# Altium integrated library Coiltronics Passive Transformer.IntLib: 204 symbols (part 1 of 4)
Pins are listed as number, name and electrical type; pins without a type are passive.

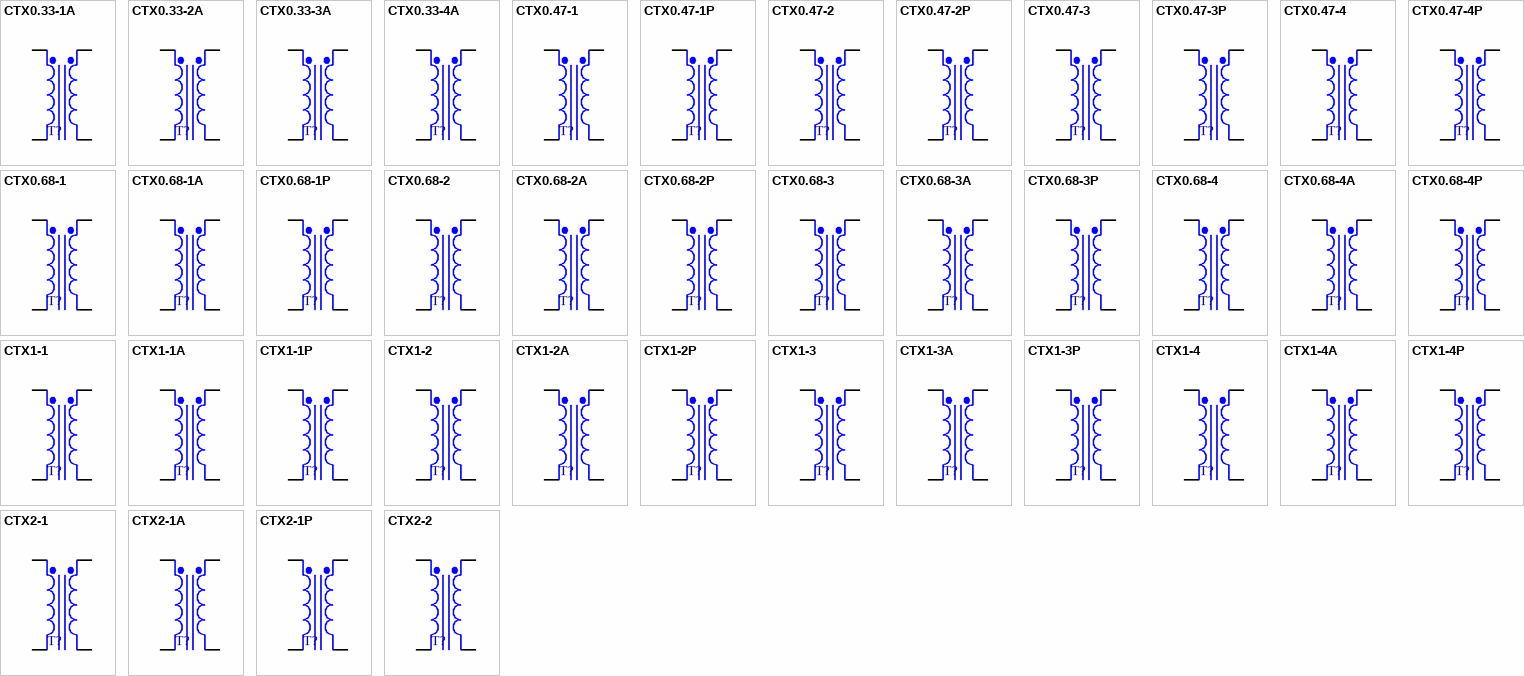
[diagram p0: symbols CTX0.33-1A to CTX2-2]

## CTX0.33-1A
designator T?
Surface Mount 1:1 Transformer, 4.98A RMS Series Current, Octa-Pac Plus; Parallel_OCL: 0.402uH ± 25%; Parallel_I(Sat): 12.5A (Peak); Parallel_I(RMS): 10.00A DC; Parallel_DCR: 0.0037 Ohms (Typical @ 20°C); Series_OCL: 1.61uH ± 25%; Series_I(Sat): 6.25uH (Minimum); Series_I(RMS): 4.98A DC; Series_DCR: 0.015 Ohms (Typical @ 20°C); Published: 17-Jul-2002; DatasheetDocument: Dec-2001; PackageDocument: Dec-2001; PackageReference: OPA1; Publisher: Altium Limited; ComponentLink1Description: Manufacturer Link; ComponentLink1URL: http://www.cooperet.com/; ComponentLink2Description: Datasheet; ComponentLink2URL: http://www.cooperet.com/pdfs_html/EconoPacOctaPacOctaPacPlus_Specs.pdf
footprint OPA1 (SM Inductor/Transformer; 4 Leads; Body 8.89 x 8.89 x 4.19 mm (LxWxH))
pins: 1 Pri+, 2 Pri-, 3 Sec-, 4 Sec+

## CTX0.33-2A
designator T?
Surface Mount 1:1 Transformer, 5.47A RMS Series Current, Octa-Pac Plus; Parallel_OCL: 0.284uH ± 25%; Parallel_I(Sat): 18.80A (Peak); Parallel_I(RMS): 10.90A DC; Parallel_DCR: 0.0033 Ohms (Typical @ 20°C); Series_OCL: 1.14uH ± 25%; Series_I(Sat): 9.38uH (Minimum); Series_I(RMS): 5.47A DC; Series_DCR: 0.0132 Ohms (Typical @ 20°C); Published: 17-Jul-2002; DatasheetDocument: Dec-2001; PackageDocument: Dec-2001; PackageReference: OPA1; Publisher: Altium Limited; ComponentLink1Description: Manufacturer Link; ComponentLink1URL: http://www.cooperet.com/; ComponentLink2Description: Datasheet; ComponentLink2URL: http://www.cooperet.com/pdfs_html/EconoPacOctaPacOctaPacPlus_Specs.pdf
footprint OPA1 (SM Inductor/Transformer; 4 Leads; Body 8.89 x 8.89 x 4.19 mm (LxWxH))
pins: 1 Pri+, 2 Pri-, 3 Sec-, 4 Sec+

## CTX0.33-3A
designator T?
Surface Mount 1:1 Transformer, 5.72A RMS Series Current, Octa-Pac Plus; Parallel_OCL: 0.368uH ± 25%; Parallel_I(Sat): 15.00A (Peak); Parallel_I(RMS): 11.4A DC; Parallel_DCR: 0.0032 Ohms (Typical @ 20°C); Series_OCL: 1.47uH ± 25%; Series_I(Sat): 7.5uH (Minimum); Series_I(RMS): 5.72A DC; Series_DCR: 0.0128 Ohms (Typical @ 20°C); Published: 17-Jul-2002; DatasheetDocument: Dec-2001; PackageDocument: Dec-2001; PackageReference: OPA3; Publisher: Altium Limited; ComponentLink1Description: Manufacturer Link; ComponentLink1URL: http://www.cooperet.com/; ComponentLink2Description: Datasheet; ComponentLink2URL: http://www.cooperet.com/pdfs_html/EconoPacOctaPacOctaPacPlus_Specs.pdf
footprint OPA3 (SM Inductor/Transformer; 4 Leads; Body 11.43 x 11.43 x 4.83 mm (LxWxH))
pins: 1 Pri+, 2 Pri-, 3 Sec-, 4 Sec+

## CTX0.33-4A
designator T?
Surface Mount 1:1 Transformer, 6.09A RMS Series Current, Octa-Pac Plus; Parallel_OCL: 0.313uH ± 25%; Parallel_I(Sat): 22.50A (Peak); Parallel_I(RMS): 12.2A DC; Parallel_DCR: 0.003 Ohms (Typical @ 20°C); Series_OCL: 1.25uH ± 25%; Series_I(Sat): 11.25uH (Minimum); Series_I(RMS): 6.09A DC; Series_DCR: 0.0119 Ohms (Typical @ 20°C); Published: 17-Jul-2002; DatasheetDocument: Dec-2001; PackageDocument: Dec-2001; PackageReference: OPA4; Publisher: Altium Limited; ComponentLink1Description: Manufacturer Link; ComponentLink1URL: http://www.cooperet.com/; ComponentLink2Description: Datasheet; ComponentLink2URL: http://www.cooperet.com/pdfs_html/EconoPacOctaPacOctaPacPlus_Specs.pdf
footprint OPA4 (SM Inductor/Transformer; 4 Leads; Body 11.43 x 11.43 x 6.35 mm (LxWxH))
pins: 1 Pri+, 2 Pri-, 3 Sec-, 4 Sec+

## CTX0.47-1
designator T?
Surface Mount 1:1 Transformer, 2.75A DC Series Full Load Current, Octa-Pac; Parallel_OCL: 0.40uH ± 20%; Parallel_L(Full_Load): 0.26uH (Minimum); Parallel_I(Full_Load): 5.50A DC; Parallel_DCR: 0.005 Ohms (Maximum); Series_OCL: 1.60uH ± 20%; Series_L(Full_Load): 1.05uH (Minimum); Series_DCR: 0.02 Ohms (Maximum); Published: 17-Jul-2002; DatasheetDocument: Jan-2002; PackageDocument: Dec-2001; PackageReference: OPA1; Publisher: Altium Limited; Series_I(Full_Load): 2.75A DC; ComponentLink1Description: Manufacturer Link; ComponentLink1URL: http://www.cooperet.com/; ComponentLink2Description: Datasheet; ComponentLink2URL: http://www.cooperet.com/pdfs_html/EconoPacOctaPacOctaPacPlus_Specs.pdf
footprint OPA1 (SM Inductor/Transformer; 4 Leads; Body 8.89 x 8.89 x 4.19 mm (LxWxH))
pins: 1 Pri+, 2 Pri-, 3 Sec-, 4 Sec+

## CTX0.47-1P
designator T?
Surface Mount 1:1 Transformer, 2.75A DC Series Full Load Current, Econo-Pac; Parallel_OCL: 0.42uH ± 20%; Parallel_L(Full_Load): 0.31uH (Minimum); Parallel_I(Full_Load): 5.50A DC; Parallel_DCR: 0.005 Ohms (Maximum); Series_OCL: 1.67uH ± 20%; Series_L(Full_Load): 1.25uH (Minimum); Series_DCR: 0.021 Ohms (Maximum); Published: 17-Jul-2002; DatasheetDocument: Jan-2002; PackageDocument: Dec-2001; PackageReference: OPA1; Publisher: Altium Limited; Series_I(Full_Load): 2.75A DC; ComponentLink1Description: Manufacturer Link; ComponentLink1URL: http://www.cooperet.com/; ComponentLink2Description: Datasheet; ComponentLink2URL: http://www.cooperet.com/pdfs_html/EconoPacOctaPacOctaPacPlus_Specs.pdf
footprint OPA1 (SM Inductor/Transformer; 4 Leads; Body 8.89 x 8.89 x 4.19 mm (LxWxH))
pins: 1 Pri+, 2 Pri-, 3 Sec-, 4 Sec+

## CTX0.47-2
designator T?
Surface Mount 1:1 Transformer, 3.25A DC Series Full Load Current, Octa-Pac; Parallel_OCL: 0.42uH ± 20%; Parallel_L(Full_Load): 0.29uH (Minimum); Parallel_I(Full_Load): 6.50A DC; Parallel_DCR: 0.005 Ohms (Maximum); Series_OCL: 1.69uH ± 20%; Series_L(Full_Load): 1.17uH (Minimum); Series_DCR: 0.019 Ohms (Maximum); Published: 17-Jul-2002; DatasheetDocument: Jan-2002; PackageDocument: Dec-2001; PackageReference: OPA1; Publisher: Altium Limited; Series_I(Full_Load): 3.25A DC; ComponentLink1Description: Manufacturer Link; ComponentLink1URL: http://www.cooperet.com/; ComponentLink2Description: Datasheet; ComponentLink2URL: http://www.cooperet.com/pdfs_html/EconoPacOctaPacOctaPacPlus_Specs.pdf
footprint OPA1 (SM Inductor/Transformer; 4 Leads; Body 8.89 x 8.89 x 4.19 mm (LxWxH))
pins: 1 Pri+, 2 Pri-, 3 Sec-, 4 Sec+

## CTX0.47-2P
designator T?
Surface Mount 1:1 Transformer, 2.95A DC Series Full Load Current, Econo-Pac; Parallel_OCL: 0.54uH ± 20%; Parallel_L(Full_Load): 0.42uH (Minimum); Parallel_I(Full_Load): 5.90A DC; Parallel_DCR: 0.006 Ohms (Maximum); Series_OCL: 2.18uH ± 20%; Series_L(Full_Load): 1.69uH (Minimum); Series_DCR: 0.024 Ohms (Maximum); Published: 17-Jul-2002; DatasheetDocument: Jan-2002; PackageDocument: Dec-2001; PackageReference: OPA1; Publisher: Altium Limited; Series_I(Full_Load): 2.95A DC; ComponentLink1Description: Manufacturer Link; ComponentLink1URL: http://www.cooperet.com/; ComponentLink2Description: Datasheet; ComponentLink2URL: http://www.cooperet.com/pdfs_html/EconoPacOctaPacOctaPacPlus_Specs.pdf
footprint OPA1 (SM Inductor/Transformer; 4 Leads; Body 8.89 x 8.89 x 4.19 mm (LxWxH))
pins: 1 Pri+, 2 Pri-, 3 Sec-, 4 Sec+

## CTX0.47-3
designator T?
Surface Mount 1:1 Transformer, 3.00A DC Series Full Load Current, Octa-Pac; Parallel_OCL: 0.38uH ± 20%; Parallel_L(Full_Load): 0.27uH (Minimum); Parallel_I(Full_Load): 6.00A DC; Parallel_DCR: 0.005 Ohms (Maximum); Series_OCL: 1.54uH ± 20%; Series_L(Full_Load): 1.08uH (Minimum); Series_I(Full_Load): 3A DC; Series_DCR: 0.02 Ohms (Maximum); Published: 17-Jul-2002; DatasheetDocument: Jan-2002; PackageDocument: Dec-2001; PackageReference: OPA3; Publisher: Altium Limited; ComponentLink1Description: Manufacturer Link; ComponentLink1URL: http://www.cooperet.com/; ComponentLink2Description: Datasheet; ComponentLink2URL: http://www.cooperet.com/pdfs_html/EconoPacOctaPacOctaPacPlus_Specs.pdf
footprint OPA3 (SM Inductor/Transformer; 4 Leads; Body 11.43 x 11.43 x 4.83 mm (LxWxH))
pins: 1 Pri+, 2 Pri-, 3 Sec-, 4 Sec+

## CTX0.47-3P
designator T?
Surface Mount 1:1 Transformer, 3.10A DC Series Full Load Current, Econo-Pac; Parallel_OCL: 0.46uH ± 20%; Parallel_L(Full_Load): 0.35uH (Minimum); Parallel_I(Full_Load): 6.20A DC; Parallel_DCR: 0.006 Ohms (Maximum); Series_OCL: 1.85uH ± 20%; Series_L(Full_Load): 1.42uH (Minimum); Series_I(Full_Load): 3.1A DC; Series_DCR: 0.025 Ohms (Maximum); Published: 17-Jul-2002; DatasheetDocument: Jan-2002; PackageDocument: Dec-2001; PackageReference: OPA3; Publisher: Altium Limited; ComponentLink1Description: Manufacturer Link; ComponentLink1URL: http://www.cooperet.com/; ComponentLink2Description: Datasheet; ComponentLink2URL: http://www.cooperet.com/pdfs_html/EconoPacOctaPacOctaPacPlus_Specs.pdf
footprint OPA3 (SM Inductor/Transformer; 4 Leads; Body 11.43 x 11.43 x 4.83 mm (LxWxH))
pins: 1 Pri+, 2 Pri-, 3 Sec-, 4 Sec+

## CTX0.47-4
designator T?
Surface Mount 1:1 Transformer, 3.50A DC Series Full Load Current, Octa-Pac; Parallel_OCL: 0.44uH ± 20%; Parallel_L(Full_Load): 0.32uH (Minimum); Parallel_I(Full_Load): 7.00A DC; Parallel_DCR: 0.004 Ohms (Maximum); Series_OCL: 1.76uH ± 20%; Series_L(Full_Load): 1.29uH (Minimum); Series_I(Full_Load): 3.5A DC; Series_DCR: 0.016 Ohms (Maximum); Published: 17-Jul-2002; DatasheetDocument: Jan-2002; PackageDocument: Dec-2001; PackageReference: OPA4; Publisher: Altium Limited; ComponentLink1Description: Manufacturer Link; ComponentLink1URL: http://www.cooperet.com/; ComponentLink2Description: Datasheet; ComponentLink2URL: http://www.cooperet.com/pdfs_html/EconoPacOctaPacOctaPacPlus_Specs.pdf
footprint OPA4 (SM Inductor/Transformer; 4 Leads; Body 11.43 x 11.43 x 6.35 mm (LxWxH))
pins: 1 Pri+, 2 Pri-, 3 Sec-, 4 Sec+

## CTX0.47-4P
designator T?
Surface Mount 1:1 Transformer, 3.95A DC Series Full Load Current, Econo-Pac; Parallel_OCL: 0.49uH ± 20%; Parallel_L(Full_Load): 0.37uH (Minimum); Parallel_I(Full_Load): 7.90A DC; Parallel_DCR: 0.005 Ohms (Maximum); Series_OCL: 1.95uH ± 20%; Series_L(Full_Load): 1.49uH (Minimum); Series_DCR: 0.019 Ohms (Maximum); Published: 17-Jul-2002; DatasheetDocument: Jan-2002; PackageDocument: Dec-2001; PackageReference: OPA4; Publisher: Altium Limited; Series_I(Full_Load): 3.95A DC; ComponentLink1Description: Manufacturer Link; ComponentLink1URL: http://www.cooperet.com/; ComponentLink2Description: Datasheet; ComponentLink2URL: http://www.cooperet.com/pdfs_html/EconoPacOctaPacOctaPacPlus_Specs.pdf
footprint OPA4 (SM Inductor/Transformer; 4 Leads; Body 11.43 x 11.43 x 6.35 mm (LxWxH))
pins: 1 Pri+, 2 Pri-, 3 Sec-, 4 Sec+

## CTX0.68-1
designator T?
Surface Mount 1:1 Transformer, 2.25A DC Series Full Load Current, Octa-Pac; Parallel_OCL: 0.63uH ± 20%; Parallel_L(Full_Load): 0.41uH (Minimum); Parallel_I(Full_Load): 4.50A DC; Parallel_DCR: 0.006 Ohms (Maximum); Series_OCL: 2.50uH ± 20%; Series_L(Full_Load): 1.63uH (Minimum); Series_DCR: 0.024 Ohms (Maximum); Published: 17-Jul-2002; DatasheetDocument: Jan-2002; PackageDocument: Dec-2001; PackageReference: OPA1; Publisher: Altium Limited; Series_I(Full_Load): 2.25A DC; ComponentLink1Description: Manufacturer Link; ComponentLink1URL: http://www.cooperet.com/; ComponentLink2Description: Datasheet; ComponentLink2URL: http://www.cooperet.com/pdfs_html/EconoPacOctaPacOctaPacPlus_Specs.pdf
footprint OPA1 (SM Inductor/Transformer; 4 Leads; Body 8.89 x 8.89 x 4.19 mm (LxWxH))
pins: 1 Pri+, 2 Pri-, 3 Sec-, 4 Sec+

## CTX0.68-1A
designator T?
Surface Mount 1:1 Transformer, 4.48A RMS Series Current, Octa-Pac Plus; Parallel_OCL: 0.752uH ± 25%; Parallel_I(Sat): 9.40A (Peak); Parallel_I(RMS): 9.00A DC; Parallel_DCR: 0.0046 Ohms (Typical @ 20°C); Series_OCL: 3.01uH ± 25%; Series_I(Sat): 4.69uH (Minimum); Series_I(RMS): 4.48A DC; Series_DCR: 0.0185 Ohms (Typical @ 20°C); Published: 17-Jul-2002; DatasheetDocument: Dec-2001; PackageDocument: Dec-2001; PackageReference: OPA1; Publisher: Altium Limited; ComponentLink1Description: Manufacturer Link; ComponentLink1URL: http://www.cooperet.com/; ComponentLink2Description: Datasheet; ComponentLink2URL: http://www.cooperet.com/pdfs_html/EconoPacOctaPacOctaPacPlus_Specs.pdf
footprint OPA1 (SM Inductor/Transformer; 4 Leads; Body 8.89 x 8.89 x 4.19 mm (LxWxH))
pins: 1 Pri+, 2 Pri-, 3 Sec-, 4 Sec+

## CTX0.68-1P
designator T?
Surface Mount 1:1 Transformer, 2.55A DC Series Full Load Current, Econo-Pac; Parallel_OCL: 0.60uH ± 20%; Parallel_L(Full_Load): 0.43uH (Minimum); Parallel_I(Full_Load): 5.10A DC; Parallel_DCR: 0.006 Ohms (Maximum); Series_OCL: 2.4uH ± 20%; Series_L(Full_Load): 1.74uH (Minimum); Series_DCR: 0.025 Ohms (Maximum); Published: 17-Jul-2002; DatasheetDocument: Jan-2002; PackageDocument: Dec-2001; PackageReference: OPA1; Publisher: Altium Limited; Series_I(Full_Load): 2.55A DC; ComponentLink1Description: Manufacturer Link; ComponentLink1URL: http://www.cooperet.com/; ComponentLink2Description: Datasheet; ComponentLink2URL: http://www.cooperet.com/pdfs_html/EconoPacOctaPacOctaPacPlus_Specs.pdf
footprint OPA1 (SM Inductor/Transformer; 4 Leads; Body 8.89 x 8.89 x 4.19 mm (LxWxH))
pins: 1 Pri+, 2 Pri-, 3 Sec-, 4 Sec+

## CTX0.68-2
designator T?
Surface Mount 1:1 Transformer, 2.75A DC Series Full Load Current, Octa-Pac; Parallel_OCL: 0.75uH ± 20%; Parallel_L(Full_Load): 0.50uH (Minimum); Parallel_I(Full_Load): 5.50A DC; Parallel_DCR: 0.006 Ohms (Maximum); Series_OCL: 3.01uH ± 20%; Series_L(Full_Load): 1.98uH (Minimum); Series_DCR: 0.024 Ohms (Maximum); Published: 17-Jul-2002; DatasheetDocument: Jan-2002; PackageDocument: Dec-2001; PackageReference: OPA1; Publisher: Altium Limited; Series_I(Full_Load): 2.75A DC; ComponentLink1Description: Manufacturer Link; ComponentLink1URL: http://www.cooperet.com/; ComponentLink2Description: Datasheet; ComponentLink2URL: http://www.cooperet.com/pdfs_html/EconoPacOctaPacOctaPacPlus_Specs.pdf
footprint OPA1 (SM Inductor/Transformer; 4 Leads; Body 8.89 x 8.89 x 4.19 mm (LxWxH))
pins: 1 Pri+, 2 Pri-, 3 Sec-, 4 Sec+

## CTX0.68-2A
designator T?
Surface Mount 1:1 Transformer, 4.68A RMS Series Current, Octa-Pac Plus; Parallel_OCL: 0.675uH ± 25%; Parallel_I(Sat): 12.50A (Peak); Parallel_I(RMS): 9.40A DC; Parallel_DCR: 0.0045 Ohms (Typical @ 20°C); Series_OCL: 2.70uH ± 25%; Series_I(Sat): 6.25uH (Minimum); Series_I(RMS): 4.68A DC; Series_DCR: 0.018 Ohms (Typical @ 20°C); Published: 17-Jul-2002; DatasheetDocument: Dec-2001; PackageDocument: Dec-2001; PackageReference: OPA1; Publisher: Altium Limited; ComponentLink1Description: Manufacturer Link; ComponentLink1URL: http://www.cooperet.com/; ComponentLink2Description: Datasheet; ComponentLink2URL: http://www.cooperet.com/pdfs_html/EconoPacOctaPacOctaPacPlus_Specs.pdf
footprint OPA1 (SM Inductor/Transformer; 4 Leads; Body 8.89 x 8.89 x 4.19 mm (LxWxH))
pins: 1 Pri+, 2 Pri-, 3 Sec-, 4 Sec+

## CTX0.68-2P
designator T?
Surface Mount 1:1 Transformer, 2.70A DC Series Full Load Current, Econo-Pac; Parallel_OCL: 0.85uH ± 20%; Parallel_L(Full_Load): 0.64uH (Minimum); Parallel_I(Full_Load): 5.40A DC; Parallel_DCR: 0.007 Ohms (Maximum); Series_OCL: 3.40uH ± 20%; Series_L(Full_Load): 2.55uH (Minimum); Series_I(Full_Load): 2.7A DC; Series_DCR: 0.029 Ohms (Maximum); Published: 17-Jul-2002; DatasheetDocument: Jan-2002; PackageDocument: Dec-2001; PackageReference: OPA1; Publisher: Altium Limited; ComponentLink1Description: Manufacturer Link; ComponentLink1URL: http://www.cooperet.com/; ComponentLink2Description: Datasheet; ComponentLink2URL: http://www.cooperet.com/pdfs_html/EconoPacOctaPacOctaPacPlus_Specs.pdf
footprint OPA1 (SM Inductor/Transformer; 4 Leads; Body 8.89 x 8.89 x 4.19 mm (LxWxH))
pins: 1 Pri+, 2 Pri-, 3 Sec-, 4 Sec+

## CTX0.68-3
designator T?
Surface Mount 1:1 Transformer, 2.50A DC Series Full Load Current, Octa-Pac; Parallel_OCL: 0.60uH ± 20%; Parallel_L(Full_Load): 0.42uH (Minimum); Parallel_I(Full_Load): 5.00A DC; Parallel_DCR: 0.006 Ohms (Maximum); Series_OCL: 2.40uH ± 20%; Series_L(Full_Load): 1.67uH (Minimum); Series_I(Full_Load): 2.5A DC; Series_DCR: 0.024 Ohms (Maximum); Published: 17-Jul-2002; DatasheetDocument: Jan-2002; PackageDocument: Dec-2001; PackageReference: OPA3; Publisher: Altium Limited; ComponentLink1Description: Manufacturer Link; ComponentLink1URL: http://www.cooperet.com/; ComponentLink2Description: Datasheet; ComponentLink2URL: http://www.cooperet.com/pdfs_html/EconoPacOctaPacOctaPacPlus_Specs.pdf
footprint OPA3 (SM Inductor/Transformer; 4 Leads; Body 11.43 x 11.43 x 4.83 mm (LxWxH))
pins: 1 Pri+, 2 Pri-, 3 Sec-, 4 Sec+

## CTX0.68-3A
designator T?
Surface Mount 1:1 Transformer, 4.64A RMS Series Current, Octa-Pac Plus; Parallel_OCL: 0.688uH ± 25%; Parallel_I(Sat): 11.30A (Peak); Parallel_I(RMS): 9.30A DC; Parallel_DCR: 0.0048 Ohms (Typical @ 20°C); Series_OCL: 2.75uH ± 25%; Series_I(Sat): 5.63uH (Minimum); Series_I(RMS): 4.64A DC; Series_DCR: 0.0194 Ohms (Typical @ 20°C); Published: 17-Jul-2002; DatasheetDocument: Dec-2001; PackageDocument: Dec-2001; PackageReference: OPA3; Publisher: Altium Limited; ComponentLink1Description: Manufacturer Link; ComponentLink1URL: http://www.cooperet.com/; ComponentLink2Description: Datasheet; ComponentLink2URL: http://www.cooperet.com/pdfs_html/EconoPacOctaPacOctaPacPlus_Specs.pdf
footprint OPA3 (SM Inductor/Transformer; 4 Leads; Body 11.43 x 11.43 x 4.83 mm (LxWxH))
pins: 1 Pri+, 2 Pri-, 3 Sec-, 4 Sec+

## CTX0.68-3P
designator T?
Surface Mount 1:1 Transformer, 2.85A DC Series Full Load Current, Econo-Pac; Parallel_OCL: 0.67uH ± 20%; Parallel_L(Full_Load): 0.50uH (Minimum); Parallel_I(Full_Load): 5.70A DC; Parallel_DCR: 0.007 Ohms (Maximum); Series_OCL: 2.66uH ± 20%; Series_L(Full_Load): 1.98uH (Minimum); Series_DCR: 0.028 Ohms (Maximum); Published: 17-Jul-2002; DatasheetDocument: Jan-2002; PackageDocument: Dec-2001; PackageReference: OPA3; Publisher: Altium Limited; Series_I(Full_Load): 2.85A DC; ComponentLink1Description: Manufacturer Link; ComponentLink1URL: http://www.cooperet.com/; ComponentLink2Description: Datasheet; ComponentLink2URL: http://www.cooperet.com/pdfs_html/EconoPacOctaPacOctaPacPlus_Specs.pdf
footprint OPA3 (SM Inductor/Transformer; 4 Leads; Body 11.43 x 11.43 x 4.83 mm (LxWxH))
pins: 1 Pri+, 2 Pri-, 3 Sec-, 4 Sec+

## CTX0.68-4
designator T?
Surface Mount 1:1 Transformer, 3.00A DC Series Full Load Current, Octa-Pac; Parallel_OCL: 0.78uH ± 20%; Parallel_L(Full_Load): 0.55uH (Minimum); Parallel_I(Full_Load): 6.00A DC; Parallel_DCR: 0.005 Ohms (Maximum); Series_OCL: 3.14uH ± 20%; Series_L(Full_Load): 2.21uH (Minimum); Series_I(Full_Load): 3A DC; Series_DCR: 0.02 Ohms (Maximum); Published: 17-Jul-2002; DatasheetDocument: Jan-2002; PackageDocument: Dec-2001; PackageReference: OPA4; Publisher: Altium Limited; ComponentLink1Description: Manufacturer Link; ComponentLink1URL: http://www.cooperet.com/; ComponentLink2Description: Datasheet; ComponentLink2URL: http://www.cooperet.com/pdfs_html/EconoPacOctaPacOctaPacPlus_Specs.pdf
footprint OPA4 (SM Inductor/Transformer; 4 Leads; Body 11.43 x 11.43 x 6.35 mm (LxWxH))
pins: 1 Pri+, 2 Pri-, 3 Sec-, 4 Sec+

## CTX0.68-4A
designator T?
Surface Mount 1:1 Transformer, 5.28A RMS Series Current, Octa-Pac Plus; Parallel_OCL: 0.744uH ± 25%; Parallel_I(Sat): 15.00A (Peak); Parallel_I(RMS): 10.6A DC; Parallel_DCR: 0.004 Ohms (Typical @ 20°C); Series_OCL: 2.98uH ± 25%; Series_I(Sat): 7.5uH (Minimum); Series_I(RMS): 5.28A DC; Series_DCR: 0.0158 Ohms (Typical @ 20°C); Published: 17-Jul-2002; DatasheetDocument: Dec-2001; PackageDocument: Dec-2001; PackageReference: OPA4; Publisher: Altium Limited; ComponentLink1Description: Manufacturer Link; ComponentLink1URL: http://www.cooperet.com/; ComponentLink2Description: Datasheet; ComponentLink2URL: http://www.cooperet.com/pdfs_html/EconoPacOctaPacOctaPacPlus_Specs.pdf
footprint OPA4 (SM Inductor/Transformer; 4 Leads; Body 11.43 x 11.43 x 6.35 mm (LxWxH))
pins: 1 Pri+, 2 Pri-, 3 Sec-, 4 Sec+

## CTX0.68-4P
designator T?
Surface Mount 1:1 Transformer, 3.60A DC Series Full Load Current, Econo-Pac; Parallel_OCL: 0.76uH ± 20%; Parallel_L(Full_Load): 0.56uH (Minimum); Parallel_I(Full_Load): 7.20A DC; Parallel_DCR: 0.006 Ohms (Maximum); Series_OCL: 3.05uH ± 20%; Series_L(Full_Load): 2.24uH (Minimum); Series_I(Full_Load): 3.6A DC; Series_DCR: 0.023 Ohms (Maximum); Published: 17-Jul-2002; DatasheetDocument: Jan-2002; PackageDocument: Dec-2001; PackageReference: OPA4; Publisher: Altium Limited; ComponentLink1Description: Manufacturer Link; ComponentLink1URL: http://www.cooperet.com/; ComponentLink2Description: Datasheet; ComponentLink2URL: http://www.cooperet.com/pdfs_html/EconoPacOctaPacOctaPacPlus_Specs.pdf
footprint OPA4 (SM Inductor/Transformer; 4 Leads; Body 11.43 x 11.43 x 6.35 mm (LxWxH))
pins: 1 Pri+, 2 Pri-, 3 Sec-, 4 Sec+

## CTX1-1
designator T?
Surface Mount 1:1 Transformer, 2.10A DC Series Full Load Current, Octa-Pac; Parallel_OCL: 0.90uH ± 20%; Parallel_L(Full_Load): 0.56uH (Minimum); Parallel_I(Full_Load): 4.20A DC; Parallel_DCR: 0.007 Ohms (Maximum); Series_OCL: 3.60uH ± 20%; Series_L(Full_Load): 2.24uH (Minimum); Series_I(Full_Load): 2.1A DC; Series_DCR: 0.028 Ohms (Maximum); Published: 17-Jul-2002; DatasheetDocument: Jan-2002; PackageDocument: Dec-2001; PackageReference: OPA1; Publisher: Altium Limited; ComponentLink1Description: Manufacturer Link; ComponentLink1URL: http://www.cooperet.com/; ComponentLink2Description: Datasheet; ComponentLink2URL: http://www.cooperet.com/pdfs_html/EconoPacOctaPacOctaPacPlus_Specs.pdf
footprint OPA1 (SM Inductor/Transformer; 4 Leads; Body 8.89 x 8.89 x 4.19 mm (LxWxH))
pins: 1 Pri+, 2 Pri-, 3 Sec-, 4 Sec+

## CTX1-1A
designator T?
Surface Mount 1:1 Transformer, 3.63A RMS Series Current, Octa-Pac Plus; Parallel_OCL: 1.18uH ± 25%; Parallel_I(Sat): 7.50A (Peak); Parallel_I(RMS): 7.50A DC; Parallel_DCR: 0.0070 Ohms (Typical @ 20°C); Series_OCL: 4.70uH ± 25%; Series_I(Sat): 3.75uH (Minimum); Series_I(RMS): 3.63A DC; Series_DCR: 0.0282 Ohms (Typical @ 20°C); Published: 17-Jul-2002; DatasheetDocument: Dec-2001; PackageDocument: Dec-2001; PackageReference: OPA1; Publisher: Altium Limited; ComponentLink1Description: Manufacturer Link; ComponentLink1URL: http://www.cooperet.com/; ComponentLink2Description: Datasheet; ComponentLink2URL: http://www.cooperet.com/pdfs_html/EconoPacOctaPacOctaPacPlus_Specs.pdf
footprint OPA1 (SM Inductor/Transformer; 4 Leads; Body 8.89 x 8.89 x 4.19 mm (LxWxH))
pins: 1 Pri+, 2 Pri-, 3 Sec-, 4 Sec+

## CTX1-1P
designator T?
Surface Mount 1:1 Transformer, 2.25A DC Series Full Load Current, Econo-Pac; Parallel_OCL: 1.07uH ± 20%; Parallel_L(Full_Load): 0.73uH (Minimum); Parallel_I(Full_Load): 4.50A DC; Parallel_DCR: 0.008 Ohms (Maximum); Series_OCL: 4.28uH ± 20%; Series_L(Full_Load): 2.92uH (Minimum); Series_DCR: 0.032 Ohms (Maximum); Published: 17-Jul-2002; DatasheetDocument: Jan-2002; PackageDocument: Dec-2001; PackageReference: OPA1; Publisher: Altium Limited; Series_I(Full_Load): 2.25A DC; ComponentLink1Description: Manufacturer Link; ComponentLink1URL: http://www.cooperet.com/; ComponentLink2Description: Datasheet; ComponentLink2URL: http://www.cooperet.com/pdfs_html/EconoPacOctaPacOctaPacPlus_Specs.pdf
footprint OPA1 (SM Inductor/Transformer; 4 Leads; Body 8.89 x 8.89 x 4.19 mm (LxWxH))
pins: 1 Pri+, 2 Pri-, 3 Sec-, 4 Sec+

## CTX1-2
designator T?
Surface Mount 1:1 Transformer, 2.30A DC Series Full Load Current, Octa-Pac; Parallel_OCL: 1.18uH ± 20%; Parallel_L(Full_Load): 0.76uH (Minimum); Parallel_I(Full_Load): 4.60A DC; Parallel_DCR: 0.007 Ohms (Maximum); Series_OCL: 4.70uH ± 20%; Series_L(Full_Load): 3.04uH (Minimum); Series_I(Full_Load): 2.3A DC; Series_DCR: 0.028 Ohms (Maximum); Published: 17-Jul-2002; DatasheetDocument: Jan-2002; PackageDocument: Dec-2001; PackageReference: OPA2; Publisher: Altium Limited; ComponentLink1Description: Manufacturer Link; ComponentLink1URL: http://www.cooperet.com/; ComponentLink2Description: Datasheet; ComponentLink2URL: http://www.cooperet.com/pdfs_html/EconoPacOctaPacOctaPacPlus_Specs.pdf
footprint OPA2 (SM Inductor/Transformer; 4 Leads; Body 8.89 x 8.89 x 5.97 mm (LxWxH))
pins: 1 Pri+, 2 Pri-, 3 Sec-, 4 Sec+

## CTX1-2A
designator T?
Surface Mount 1:1 Transformer, 4.11A RMS Series Current, Octa-Pac Plus; Parallel_OCL: 1.26uH ± 25%; Parallel_I(Sat): 9.38A (Peak); Parallel_I(RMS): 8.22A DC; Parallel_DCR: 0.0058 Ohms (Typical @ 20°C); Series_OCL: 5.06uH ± 25%; Series_I(Sat): 4.69uH (Minimum); Series_I(RMS): 4.11A DC; Series_DCR: 0.0233 Ohms (Typical @ 20°C); Published: 17-Jul-2002; DatasheetDocument: Dec-2001; PackageDocument: Dec-2001; PackageReference: OPA2; Publisher: Altium Limited; ComponentLink1Description: Manufacturer Link; ComponentLink1URL: http://www.cooperet.com/; ComponentLink2Description: Datasheet; ComponentLink2URL: http://www.cooperet.com/pdfs_html/EconoPacOctaPacOctaPacPlus_Specs.pdf
footprint OPA2 (SM Inductor/Transformer; 4 Leads; Body 8.89 x 8.89 x 5.97 mm (LxWxH))
pins: 1 Pri+, 2 Pri-, 3 Sec-, 4 Sec+

## CTX1-2P
designator T?
Surface Mount 1:1 Transformer, 2.50A DC Series Full Load Current, Econo-Pac; Parallel_OCL: 1.22uH ± 20%; Parallel_L(Full_Load): 0.89uH (Minimum); Parallel_I(Full_Load): 5.00A DC; Parallel_DCR: 0.008 Ohms (Maximum); Series_OCL: 4.90uH ± 20%; Series_L(Full_Load): 3.57uH (Minimum); Series_I(Full_Load): 2.5A DC; Series_DCR: 0.033 Ohms (Maximum); Published: 17-Jul-2002; DatasheetDocument: Jan-2002; PackageDocument: Dec-2001; PackageReference: OPA2; Publisher: Altium Limited; ComponentLink1Description: Manufacturer Link; ComponentLink1URL: http://www.cooperet.com/; ComponentLink2Description: Datasheet; ComponentLink2URL: http://www.cooperet.com/pdfs_html/EconoPacOctaPacOctaPacPlus_Specs.pdf
footprint OPA2 (SM Inductor/Transformer; 4 Leads; Body 8.89 x 8.89 x 5.97 mm (LxWxH))
pins: 1 Pri+, 2 Pri-, 3 Sec-, 4 Sec+

## CTX1-3
designator T?
Surface Mount 1:1 Transformer, 2.40A DC Series Full Load Current, Octa-Pac; Parallel_OCL: 0.86uH ± 20%; Parallel_L(Full_Load): 0.57uH (Minimum); Parallel_I(Full_Load): 4.80A DC; Parallel_DCR: 0.007 Ohms (Maximum); Series_OCL: 3.46uH ± 20%; Series_L(Full_Load): 2.28uH (Minimum); Series_I(Full_Load): 2.4A DC; Series_DCR: 0.028 Ohms (Maximum); Published: 17-Jul-2002; DatasheetDocument: Jan-2002; PackageDocument: Dec-2001; PackageReference: OPA3; Publisher: Altium Limited; ComponentLink1Description: Manufacturer Link; ComponentLink1URL: http://www.cooperet.com/; ComponentLink2Description: Datasheet; ComponentLink2URL: http://www.cooperet.com/pdfs_html/EconoPacOctaPacOctaPacPlus_Specs.pdf
footprint OPA3 (SM Inductor/Transformer; 4 Leads; Body 11.43 x 11.43 x 4.83 mm (LxWxH))
pins: 1 Pri+, 2 Pri-, 3 Sec-, 4 Sec+

## CTX1-3A
designator T?
Surface Mount 1:1 Transformer, 4.19A RMS Series Current, Octa-Pac Plus; Parallel_OCL: 1.08uH ± 25%; Parallel_I(Sat): 9.00A (Peak); Parallel_I(RMS): 8.38A DC; Parallel_DCR: 0.0059 Ohms (Typical @ 20°C); Series_OCL: 4.20uH ± 25%; Series_I(Sat): 4.50uH (Minimum); Series_I(RMS): 4.19A DC; Series_DCR: 0.0238 Ohms (Typical @ 20°C); Published: 17-Jul-2002; DatasheetDocument: Dec-2001; PackageDocument: Dec-2001; PackageReference: OPA3; Publisher: Altium Limited; ComponentLink1Description: Manufacturer Link; ComponentLink1URL: http://www.cooperet.com/; ComponentLink2Description: Datasheet; ComponentLink2URL: http://www.cooperet.com/pdfs_html/EconoPacOctaPacOctaPacPlus_Specs.pdf
footprint OPA3 (SM Inductor/Transformer; 4 Leads; Body 11.43 x 11.43 x 4.83 mm (LxWxH))
pins: 1 Pri+, 2 Pri-, 3 Sec-, 4 Sec+

## CTX1-3P
designator T?
Surface Mount 1:1 Transformer, 2.70A DC Series Full Load Current, Econo-Pac; Parallel_OCL: 0.91uH ± 20%; Parallel_L(Full_Load): 0.65uH (Minimum); Parallel_I(Full_Load): 5.40A DC; Parallel_DCR: 0.008 Ohms (Maximum); Series_OCL: 3.63uH ± 20%; Series_L(Full_Load): 2.62uH (Minimum); Series_I(Full_Load): 2.7A DC; Series_DCR: 0.032 Ohms (Maximum); Published: 17-Jul-2002; DatasheetDocument: Jan-2002; PackageDocument: Dec-2001; PackageReference: OPA3; Publisher: Altium Limited; ComponentLink1Description: Manufacturer Link; ComponentLink1URL: http://www.cooperet.com/; ComponentLink2Description: Datasheet; ComponentLink2URL: http://www.cooperet.com/pdfs_html/EconoPacOctaPacOctaPacPlus_Specs.pdf
footprint OPA3 (SM Inductor/Transformer; 4 Leads; Body 11.43 x 11.43 x 4.83 mm (LxWxH))
pins: 1 Pri+, 2 Pri-, 3 Sec-, 4 Sec+

## CTX1-4
designator T?
Surface Mount 1:1 Transformer, 2.50A DC Series Full Load Current, Octa-Pac; Parallel_OCL: 1.23uH ± 20%; Parallel_L(Full_Load): 0.85uH (Minimum); Parallel_I(Full_Load): 5.00A DC; Parallel_DCR: 0.006 Ohms (Maximum); Series_OCL: 4.90uH ± 20%; Series_L(Full_Load): 3.41uH (Minimum); Series_I(Full_Load): 2.5A DC; Series_DCR: 0.024 Ohms (Maximum); Published: 17-Jul-2002; DatasheetDocument: Jan-2002; PackageDocument: Dec-2001; PackageReference: OPA4; Publisher: Altium Limited; ComponentLink1Description: Manufacturer Link; ComponentLink1URL: http://www.cooperet.com/; ComponentLink2Description: Datasheet; ComponentLink2URL: http://www.cooperet.com/pdfs_html/EconoPacOctaPacOctaPacPlus_Specs.pdf
footprint OPA4 (SM Inductor/Transformer; 4 Leads; Body 11.43 x 11.43 x 6.35 mm (LxWxH))
pins: 1 Pri+, 2 Pri-, 3 Sec-, 4 Sec+

## CTX1-4A
designator T?
Surface Mount 1:1 Transformer, 4.62A RMS Series Current, Octa-Pac Plus; Parallel_OCL: 1.39uH ± 25%; Parallel_I(Sat): 11.25A (Peak); Parallel_I(RMS): 9.23A DC; Parallel_DCR: 0.0052 Ohms (Typical @ 20°C); Series_OCL: 5.57uH ± 25%; Series_I(Sat): 5.63uH (Minimum); Series_I(RMS): 4.62A DC; Series_DCR: 0.0207 Ohms (Typical @ 20°C); Published: 17-Jul-2002; DatasheetDocument: Dec-2001; PackageDocument: Dec-2001; PackageReference: OPA4; Publisher: Altium Limited; ComponentLink1Description: Manufacturer Link; ComponentLink1URL: http://www.cooperet.com/; ComponentLink2Description: Datasheet; ComponentLink2URL: http://www.cooperet.com/pdfs_html/EconoPacOctaPacOctaPacPlus_Specs.pdf
footprint OPA4 (SM Inductor/Transformer; 4 Leads; Body 11.43 x 11.43 x 6.35 mm (LxWxH))
pins: 1 Pri+, 2 Pri-, 3 Sec-, 4 Sec+

## CTX1-4P
designator T?
Surface Mount 1:1 Transformer, 2.95A DC Series Full Load Current, Econo-Pac; Parallel_OCL: 1.10uH ± 20%; Parallel_L(Full_Load): 0.81uH (Minimum); Parallel_I(Full_Load): 5.90A DC; Parallel_DCR: 0.008 Ohms (Maximum); Series_OCL: 4.39uH ± 20%; Series_L(Full_Load): 3.24uH (Minimum); Series_DCR: 0.033 Ohms (Maximum); Published: 17-Jul-2002; DatasheetDocument: Jan-2002; PackageDocument: Dec-2001; PackageReference: OPA4; Publisher: Altium Limited; Series_I(Full_Load): 2.95A DC; ComponentLink1Description: Manufacturer Link; ComponentLink1URL: http://www.cooperet.com/; ComponentLink2Description: Datasheet; ComponentLink2URL: http://www.cooperet.com/pdfs_html/EconoPacOctaPacOctaPacPlus_Specs.pdf
footprint OPA4 (SM Inductor/Transformer; 4 Leads; Body 11.43 x 11.43 x 6.35 mm (LxWxH))
pins: 1 Pri+, 2 Pri-, 3 Sec-, 4 Sec+

## CTX2-1
designator T?
Surface Mount 1:1 Transformer, 2.05A DC Series Full Load Current, Octa-Pac; Parallel_OCL: 2.03uH ± 20%; Parallel_L(Full_Load): 1.00uH (Minimum); Parallel_I(Full_Load): 4.10A DC; Parallel_DCR: 0.01 Ohms (Maximum); Series_OCL: 8.10uH ± 20%; Series_L(Full_Load): 4.01uH (Minimum); Series_DCR: 0.04 Ohms (Maximum); Published: 17-Jul-2002; DatasheetDocument: Jan-2002; PackageDocument: Dec-2001; PackageReference: OPA1; Publisher: Altium Limited; Series_I(Full_Load): 2.05A DC; ComponentLink1Description: Manufacturer Link; ComponentLink1URL: http://www.cooperet.com/; ComponentLink2Description: Datasheet; ComponentLink2URL: http://www.cooperet.com/pdfs_html/EconoPacOctaPacOctaPacPlus_Specs.pdf
footprint OPA1 (SM Inductor/Transformer; 4 Leads; Body 8.89 x 8.89 x 4.19 mm (LxWxH))
pins: 1 Pri+, 2 Pri-, 3 Sec-, 4 Sec+

## CTX2-1A
designator T?
Surface Mount 1:1 Transformer, 2.82A RMS Series Current, Octa-Pac Plus; Parallel_OCL: 2.30uH ± 25%; Parallel_I(Sat): 5.36A (Peak); Parallel_I(RMS): 5.64A DC; Parallel_DCR: 0.012 Ohms (Typical @ 20°C); Series_OCL: 9.21uH ± 25%; Series_I(Sat): 2.68uH (Minimum); Series_I(RMS): 2.82A DC; Series_DCR: 0.0470 Ohms (Typical @ 20°C); Published: 17-Jul-2002; DatasheetDocument: Dec-2001; PackageDocument: Dec-2001; PackageReference: OPA1; Publisher: Altium Limited; ComponentLink1Description: Manufacturer Link; ComponentLink1URL: http://www.cooperet.com/; ComponentLink2Description: Datasheet; ComponentLink2URL: http://www.cooperet.com/pdfs_html/EconoPacOctaPacOctaPacPlus_Specs.pdf
footprint OPA1 (SM Inductor/Transformer; 4 Leads; Body 8.89 x 8.89 x 4.19 mm (LxWxH))
pins: 1 Pri+, 2 Pri-, 3 Sec-, 4 Sec+

## CTX2-1P
designator T?
Surface Mount 1:1 Transformer, 1.70A DC Series Full Load Current, Econo-Pac; Parallel_OCL: 2.02uH ± 20%; Parallel_L(Full_Load): 1.36uH (Minimum); Parallel_I(Full_Load): 3.40A DC; Parallel_DCR: 0.013 Ohms (Maximum); Series_OCL: 8.08uH ± 20%; Series_L(Full_Load): 5.44uH (Minimum); Series_I(Full_Load): 1.7A DC; Series_DCR: 0.054 Ohms (Maximum); Published: 17-Jul-2002; DatasheetDocument: Jan-2002; PackageDocument: Dec-2001; PackageReference: OPA1; Publisher: Altium Limited; ComponentLink1Description: Manufacturer Link; ComponentLink1URL: http://www.cooperet.com/; ComponentLink2Description: Datasheet; ComponentLink2URL: http://www.cooperet.com/pdfs_html/EconoPacOctaPacOctaPacPlus_Specs.pdf
footprint OPA1 (SM Inductor/Transformer; 4 Leads; Body 8.89 x 8.89 x 4.19 mm (LxWxH))
pins: 1 Pri+, 2 Pri-, 3 Sec-, 4 Sec+

## CTX2-2
designator T?
Surface Mount 1:1 Transformer, 2.25A DC Series Full Load Current, Octa-Pac; Parallel_OCL: 2.30uH ± 20%; Parallel_L(Full_Load): 1.27uH (Minimum); Parallel_I(Full_Load): 4.50A DC; Parallel_DCR: 0.01 Ohms (Maximum); Series_OCL: 9.21uH ± 20%; Series_L(Full_Load): 5.07uH (Minimum); Series_DCR: 0.038 Ohms (Maximum); Published: 17-Jul-2002; DatasheetDocument: Jan-2002; PackageDocument: Dec-2001; PackageReference: OPA2; Publisher: Altium Limited; Series_I(Full_Load): 2.25A DC; ComponentLink1Description: Manufacturer Link; ComponentLink1URL: http://www.cooperet.com/; ComponentLink2Description: Datasheet; ComponentLink2URL: http://www.cooperet.com/pdfs_html/EconoPacOctaPacOctaPacPlus_Specs.pdf
footprint OPA2 (SM Inductor/Transformer; 4 Leads; Body 8.89 x 8.89 x 5.97 mm (LxWxH))
pins: 1 Pri+, 2 Pri-, 3 Sec-, 4 Sec+

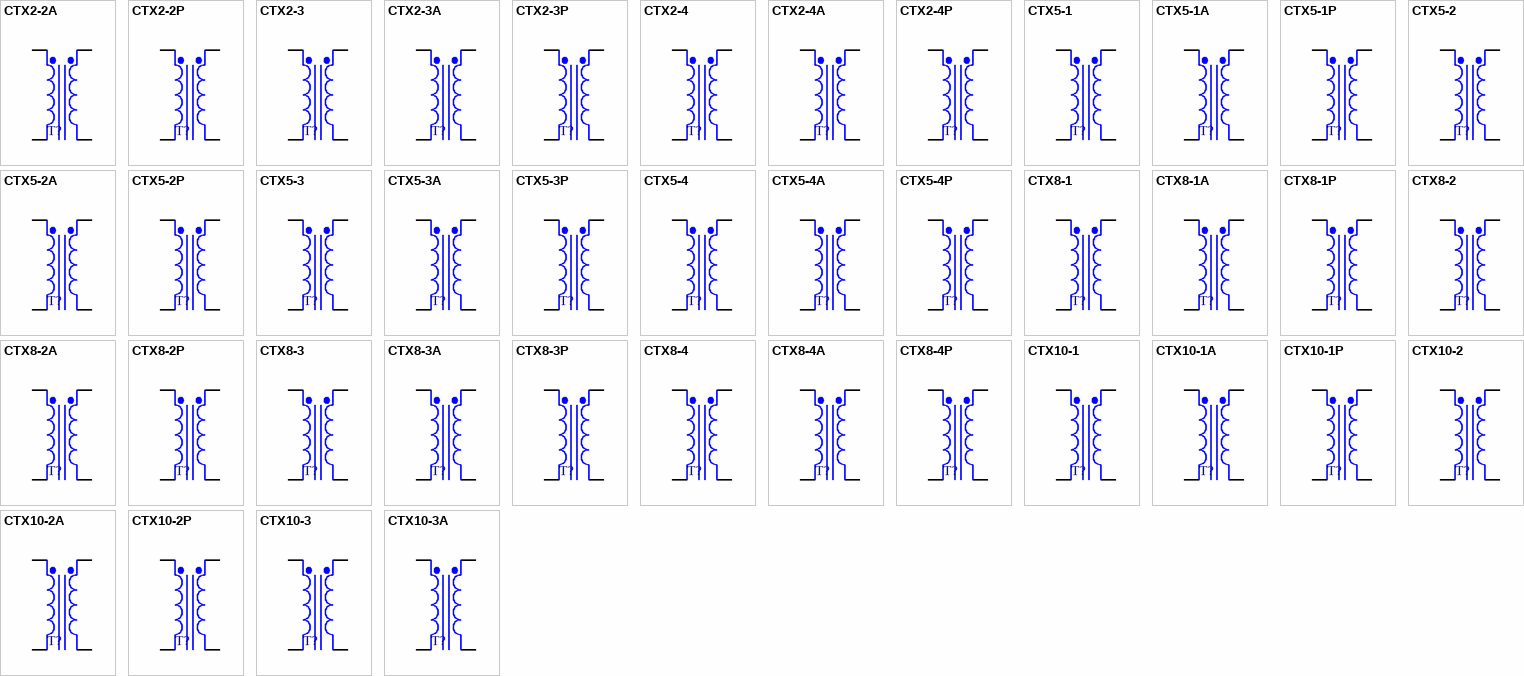
[diagram p1: symbols CTX2-2A to CTX10-3A]

## CTX2-2A
designator T?
Surface Mount 1:1 Transformer, 3.37A RMS Series Current, Octa-Pac Plus; Parallel_OCL: 1.98uH ± 25%; Parallel_I(Sat): 7.50A (Peak); Parallel_I(RMS): 6.74A DC; Parallel_DCR: 0.0090 Ohms (Typical @ 20°C); Series_OCL: 7.90uH ± 25%; Series_I(Sat): 3.75uH (Minimum); Series_I(RMS): 3.37A DC; Series_DCR: 0.035 Ohms (Typical @ 20°C); Published: 17-Jul-2002; DatasheetDocument: Dec-2001; PackageDocument: Dec-2001; PackageReference: OPA2; Publisher: Altium Limited; ComponentLink1Description: Manufacturer Link; ComponentLink1URL: http://www.cooperet.com/; ComponentLink2Description: Datasheet; ComponentLink2URL: http://www.cooperet.com/pdfs_html/EconoPacOctaPacOctaPacPlus_Specs.pdf
footprint OPA2 (SM Inductor/Transformer; 4 Leads; Body 8.89 x 8.89 x 5.97 mm (LxWxH))
pins: 1 Pri+, 2 Pri-, 3 Sec-, 4 Sec+

## CTX2-2P
designator T?
Surface Mount 1:1 Transformer, 1.95A DC Series Full Load Current, Econo-Pac; Parallel_OCL: 2.18uH ± 20%; Parallel_L(Full_Load): 1.56uH (Minimum); Parallel_I(Full_Load): 3.90A DC; Parallel_DCR: 0.014 Ohms (Maximum); Series_OCL: 8.70uH ± 20%; Series_L(Full_Load): 6.26uH (Minimum); Series_DCR: 0.055 Ohms (Maximum); Published: 17-Jul-2002; DatasheetDocument: Jan-2002; PackageDocument: Dec-2001; PackageReference: OPA2; Publisher: Altium Limited; Series_I(Full_Load): 1.95A DC; ComponentLink1Description: Manufacturer Link; ComponentLink1URL: http://www.cooperet.com/; ComponentLink2Description: Datasheet; ComponentLink2URL: http://www.cooperet.com/pdfs_html/EconoPacOctaPacOctaPacPlus_Specs.pdf
footprint OPA2 (SM Inductor/Transformer; 4 Leads; Body 8.89 x 8.89 x 5.97 mm (LxWxH))
pins: 1 Pri+, 2 Pri-, 3 Sec-, 4 Sec+

## CTX2-3
designator T?
Surface Mount 1:1 Transformer, 2.35A DC Series Full Load Current, Octa-Pac; Parallel_OCL: 1.94uH ± 20%; Parallel_L(Full_Load): 1.05uH (Minimum); Parallel_I(Full_Load): 4.70A DC; Parallel_DCR: 0.01 Ohms (Maximum); Series_OCL: 7.78uH ± 20%; Series_L(Full_Load): 4.22uH (Minimum); Series_DCR: 0.04 Ohms (Maximum); Published: 17-Jul-2002; DatasheetDocument: Jan-2002; PackageDocument: Dec-2001; PackageReference: OPA3; Publisher: Altium Limited; Series_I(Full_Load): 2.35A DC; ComponentLink1Description: Manufacturer Link; ComponentLink1URL: http://www.cooperet.com/; ComponentLink2Description: Datasheet; ComponentLink2URL: http://www.cooperet.com/pdfs_html/EconoPacOctaPacOctaPacPlus_Specs.pdf
footprint OPA3 (SM Inductor/Transformer; 4 Leads; Body 11.43 x 11.43 x 4.83 mm (LxWxH))
pins: 1 Pri+, 2 Pri-, 3 Sec-, 4 Sec+

## CTX2-3A
designator T?
Surface Mount 1:1 Transformer, 3.63A RMS Series Current, Octa-Pac Plus; Parallel_OCL: 2.11uH ± 25%; Parallel_I(Sat): 6.43A (Peak); Parallel_I(RMS): 7.26A DC; Parallel_DCR: 0.0079 Ohms (Typical @ 20°C); Series_OCL: 8.43uH ± 25%; Series_I(Sat): 3.21uH (Minimum); Series_I(RMS): 3.63A DC; Series_DCR: 0.0317 Ohms (Typical @ 20°C); Published: 17-Jul-2002; DatasheetDocument: Dec-2001; PackageDocument: Dec-2001; PackageReference: OPA3; Publisher: Altium Limited; ComponentLink1Description: Manufacturer Link; ComponentLink1URL: http://www.cooperet.com/; ComponentLink2Description: Datasheet; ComponentLink2URL: http://www.cooperet.com/pdfs_html/EconoPacOctaPacOctaPacPlus_Specs.pdf
footprint OPA3 (SM Inductor/Transformer; 4 Leads; Body 11.43 x 11.43 x 4.83 mm (LxWxH))
pins: 1 Pri+, 2 Pri-, 3 Sec-, 4 Sec+

## CTX2-3P
designator T?
Surface Mount 1:1 Transformer, 2.30A DC Series Full Load Current, Econo-Pac; Parallel_OCL: 1.85uH ± 20%; Parallel_L(Full_Load): 1.24uH (Minimum); Parallel_I(Full_Load): 4.60A DC; Parallel_DCR: 0.011 Ohms (Maximum); Series_OCL: 7.40uH ± 20%; Series_L(Full_Load): 4.97uH (Minimum); Series_I(Full_Load): 2.3A DC; Series_DCR: 0.045 Ohms (Maximum); Published: 17-Jul-2002; DatasheetDocument: Jan-2002; PackageDocument: Dec-2001; PackageReference: OPA3; Publisher: Altium Limited; ComponentLink1Description: Manufacturer Link; ComponentLink1URL: http://www.cooperet.com/; ComponentLink2Description: Datasheet; ComponentLink2URL: http://www.cooperet.com/pdfs_html/EconoPacOctaPacOctaPacPlus_Specs.pdf
footprint OPA3 (SM Inductor/Transformer; 4 Leads; Body 11.43 x 11.43 x 4.83 mm (LxWxH))
pins: 1 Pri+, 2 Pri-, 3 Sec-, 4 Sec+

## CTX2-4
designator T?
Surface Mount 1:1 Transformer, 2.45A DC Series Full Load Current, Octa-Pac; Parallel_OCL: 1.76uH ± 20%; Parallel_L(Full_Load): 1.06uH (Minimum); Parallel_I(Full_Load): 4.90A DC; Parallel_DCR: 0.007 Ohms (Maximum); Series_OCL: 7.06uH ± 20%; Series_L(Full_Load): 4.24uH (Minimum); Series_DCR: 0.028 Ohms (Maximum); Published: 17-Jul-2002; DatasheetDocument: Jan-2002; PackageDocument: Dec-2001; PackageReference: OPA4; Publisher: Altium Limited; Series_I(Full_Load): 2.45A DC; ComponentLink1Description: Manufacturer Link; ComponentLink1URL: http://www.cooperet.com/; ComponentLink2Description: Datasheet; ComponentLink2URL: http://www.cooperet.com/pdfs_html/EconoPacOctaPacOctaPacPlus_Specs.pdf
footprint OPA4 (SM Inductor/Transformer; 4 Leads; Body 11.43 x 11.43 x 6.35 mm (LxWxH))
pins: 1 Pri+, 2 Pri-, 3 Sec-, 4 Sec+

## CTX2-4A
designator T?
Surface Mount 1:1 Transformer, 4.19A RMS Series Current, Octa-Pac Plus; Parallel_OCL: 2.18uH ± 25%; Parallel_I(Sat): 9.00A (Peak); Parallel_I(RMS): 8.38A DC; Parallel_DCR: 0.0063 Ohms (Typical @ 20°C); Series_OCL: 8.70uH ± 25%; Series_I(Sat): 4.50uH (Minimum); Series_I(RMS): 4.19A DC; Series_DCR: 0.0251 Ohms (Typical @ 20°C); Published: 17-Jul-2002; DatasheetDocument: Dec-2001; PackageDocument: Dec-2001; PackageReference: OPA4; Publisher: Altium Limited; ComponentLink1Description: Manufacturer Link; ComponentLink1URL: http://www.cooperet.com/; ComponentLink2Description: Datasheet; ComponentLink2URL: http://www.cooperet.com/pdfs_html/EconoPacOctaPacOctaPacPlus_Specs.pdf
footprint OPA4 (SM Inductor/Transformer; 4 Leads; Body 11.43 x 11.43 x 6.35 mm (LxWxH))
pins: 1 Pri+, 2 Pri-, 3 Sec-, 4 Sec+

## CTX2-4P
designator T?
Surface Mount 1:1 Transformer, 2.30A DC Series Full Load Current, Econo-Pac; Parallel_OCL: 1.95uH ± 20%; Parallel_L(Full_Load): 1.42uH (Minimum); Parallel_I(Full_Load): 4.60A DC; Parallel_DCR: 0.014 Ohms (Maximum); Series_OCL: 7.81uH ± 20%; Series_L(Full_Load): 5.69uH (Minimum); Series_I(Full_Load): 2.3A DC; Series_DCR: 0.055 Ohms (Maximum); Published: 17-Jul-2002; DatasheetDocument: Jan-2002; PackageDocument: Dec-2001; PackageReference: OPA4; Publisher: Altium Limited; ComponentLink1Description: Manufacturer Link; ComponentLink1URL: http://www.cooperet.com/; ComponentLink2Description: Datasheet; ComponentLink2URL: http://www.cooperet.com/pdfs_html/EconoPacOctaPacOctaPacPlus_Specs.pdf
footprint OPA4 (SM Inductor/Transformer; 4 Leads; Body 11.43 x 11.43 x 6.35 mm (LxWxH))
pins: 1 Pri+, 2 Pri-, 3 Sec-, 4 Sec+

## CTX5-1
designator T?
Surface Mount 1:1 Transformer, 1.15A DC Series Full Load Current, Octa-Pac; Parallel_OCL: 4.90uH ± 20%; Parallel_L(Full_Load): 2.66uH (Minimum); Parallel_I(Full_Load): 2.30A DC; Parallel_DCR: 0.03 Ohms (Maximum); Series_OCL: 19.60uH ± 20%; Series_L(Full_Load): 10.64uH (Minimum); Series_DCR: 0.122 Ohms (Maximum); Published: 17-Jul-2002; DatasheetDocument: Jan-2002; PackageDocument: Dec-2001; PackageReference: OPA1; Publisher: Altium Limited; Series_I(Full_Load): 1.15A DC; ComponentLink1Description: Manufacturer Link; ComponentLink1URL: http://www.cooperet.com/; ComponentLink2Description: Datasheet; ComponentLink2URL: http://www.cooperet.com/pdfs_html/EconoPacOctaPacOctaPacPlus_Specs.pdf
footprint OPA1 (SM Inductor/Transformer; 4 Leads; Body 8.89 x 8.89 x 4.19 mm (LxWxH))
pins: 1 Pri+, 2 Pri-, 3 Sec-, 4 Sec+

## CTX5-1A
designator T?
Surface Mount 1:1 Transformer, 2.13A RMS Series Current, Octa-Pac Plus; Parallel_OCL: 4.70uH ± 25%; Parallel_I(Sat): 3.75A (Peak); Parallel_I(RMS): 4.27A DC; Parallel_DCR: 0.020 Ohms (Typical @ 20°C); Series_OCL: 18.80uH ± 25%; Series_I(Sat): 1.88uH (Minimum); Series_I(RMS): 2.13A DC; Series_DCR: 0.082 Ohms (Typical @ 20°C); Published: 17-Jul-2002; DatasheetDocument: Dec-2001; PackageDocument: Dec-2001; PackageReference: OPA1; Publisher: Altium Limited; ComponentLink1Description: Manufacturer Link; ComponentLink1URL: http://www.cooperet.com/; ComponentLink2Description: Datasheet; ComponentLink2URL: http://www.cooperet.com/pdfs_html/EconoPacOctaPacOctaPacPlus_Specs.pdf
footprint OPA1 (SM Inductor/Transformer; 4 Leads; Body 8.89 x 8.89 x 4.19 mm (LxWxH))
pins: 1 Pri+, 2 Pri-, 3 Sec-, 4 Sec+

## CTX5-1P
designator T?
Surface Mount 1:1 Transformer, 1.00A DC Series Full Load Current, Econo-Pac; Parallel_OCL: 4.83uH ± 20%; Parallel_L(Full_Load): 3.37uH (Minimum); Parallel_I(Full_Load): 2.00A DC; Parallel_DCR: 0.04 Ohms (Maximum); Series_OCL: 19.31uH ± 20%; Series_L(Full_Load): 13.47uH (Minimum); Series_I(Full_Load): 1A DC; Series_DCR: 0.161 Ohms (Maximum); Published: 17-Jul-2002; DatasheetDocument: Jan-2002; PackageDocument: Dec-2001; PackageReference: OPA1; Publisher: Altium Limited; ComponentLink1Description: Manufacturer Link; ComponentLink1URL: http://www.cooperet.com/; ComponentLink2Description: Datasheet; ComponentLink2URL: http://www.cooperet.com/pdfs_html/EconoPacOctaPacOctaPacPlus_Specs.pdf
footprint OPA1 (SM Inductor/Transformer; 4 Leads; Body 8.89 x 8.89 x 4.19 mm (LxWxH))
pins: 1 Pri+, 2 Pri-, 3 Sec-, 4 Sec+

## CTX5-2
designator T?
Surface Mount 1:1 Transformer, 1.50A DC Series Full Load Current, Octa-Pac; Parallel_OCL: 4.70uH ± 20%; Parallel_L(Full_Load): 2.66uH (Minimum); Parallel_I(Full_Load): 3.00A DC; Parallel_DCR: 0.021 Ohms (Maximum); Series_OCL: 18.80uH ± 20%; Series_L(Full_Load): 10.65uH (Minimum); Series_I(Full_Load): 1.5A DC; Series_DCR: 0.084 Ohms (Maximum); Published: 17-Jul-2002; DatasheetDocument: Jan-2002; PackageDocument: Dec-2001; PackageReference: OPA2; Publisher: Altium Limited; ComponentLink1Description: Manufacturer Link; ComponentLink1URL: http://www.cooperet.com/; ComponentLink2Description: Datasheet; ComponentLink2URL: http://www.cooperet.com/pdfs_html/EconoPacOctaPacOctaPacPlus_Specs.pdf
footprint OPA2 (SM Inductor/Transformer; 4 Leads; Body 8.89 x 8.89 x 5.97 mm (LxWxH))
pins: 1 Pri+, 2 Pri-, 3 Sec-, 4 Sec+

## CTX5-2A
designator T?
Surface Mount 1:1 Transformer, 2.17A RMS Series Current, Octa-Pac Plus; Parallel_OCL: 5.06uH ± 25%; Parallel_I(Sat): 4.69A (Peak); Parallel_I(RMS): 4.34A DC; Parallel_DCR: 0.021 Ohms (Typical @ 20°C); Series_OCL: 20.22uH ± 25%; Series_I(Sat): 2.34uH (Minimum); Series_I(RMS): 2.17A DC; Series_DCR: 0.084 Ohms (Typical @ 20°C); Published: 17-Jul-2002; DatasheetDocument: Dec-2001; PackageDocument: Dec-2001; PackageReference: OPA2; Publisher: Altium Limited; ComponentLink1Description: Manufacturer Link; ComponentLink1URL: http://www.cooperet.com/; ComponentLink2Description: Datasheet; ComponentLink2URL: http://www.cooperet.com/pdfs_html/EconoPacOctaPacOctaPacPlus_Specs.pdf
footprint OPA2 (SM Inductor/Transformer; 4 Leads; Body 8.89 x 8.89 x 5.97 mm (LxWxH))
pins: 1 Pri+, 2 Pri-, 3 Sec-, 4 Sec+

## CTX5-2P
designator T?
Surface Mount 1:1 Transformer, 1.25A DC Series Full Load Current, Econo-Pac; Parallel_OCL: 4.90uH ± 20%; Parallel_L(Full_Load): 3.57uH (Minimum); Parallel_I(Full_Load): 2.50A DC; Parallel_DCR: 0.032 Ohms (Maximum); Series_OCL: 19.58uH ± 20%; Series_L(Full_Load): 14.26uH (Minimum); Series_DCR: 0.128 Ohms (Maximum); Published: 17-Jul-2002; DatasheetDocument: Jan-2002; PackageDocument: Dec-2001; PackageReference: OPA2; Publisher: Altium Limited; Series_I(Full_Load): 1.25A DC; ComponentLink1Description: Manufacturer Link; ComponentLink1URL: http://www.cooperet.com/; ComponentLink2Description: Datasheet; ComponentLink2URL: http://www.cooperet.com/pdfs_html/EconoPacOctaPacOctaPacPlus_Specs.pdf
footprint OPA2 (SM Inductor/Transformer; 4 Leads; Body 8.89 x 8.89 x 5.97 mm (LxWxH))
pins: 1 Pri+, 2 Pri-, 3 Sec-, 4 Sec+

## CTX5-3
designator T?
Surface Mount 1:1 Transformer, 1.50A DC Series Full Load Current, Octa-Pac; Parallel_OCL: 4.70uH ± 20%; Parallel_L(Full_Load): 2.56uH (Minimum); Parallel_I(Full_Load): 3.00A DC; Parallel_DCR: 0.019 Ohms (Maximum); Series_OCL: 18.82uH ± 20%; Series_L(Full_Load): 10.26uH (Minimum); Series_I(Full_Load): 1.5A DC; Series_DCR: 0.077 Ohms (Maximum); Published: 17-Jul-2002; DatasheetDocument: Jan-2002; PackageDocument: Dec-2001; PackageReference: OPA3; Publisher: Altium Limited; ComponentLink1Description: Manufacturer Link; ComponentLink1URL: http://www.cooperet.com/; ComponentLink2Description: Datasheet; ComponentLink2URL: http://www.cooperet.com/pdfs_html/EconoPacOctaPacOctaPacPlus_Specs.pdf
footprint OPA3 (SM Inductor/Transformer; 4 Leads; Body 11.43 x 11.43 x 4.83 mm (LxWxH))
pins: 1 Pri+, 2 Pri-, 3 Sec-, 4 Sec+

## CTX5-3A
designator T?
Surface Mount 1:1 Transformer, 2.62A RMS Series Current, Octa-Pac Plus; Parallel_OCL: 5.20uH ± 25%; Parallel_I(Sat): 4.09A (Peak); Parallel_I(RMS): 5.24A DC; Parallel_DCR: 0.015 Ohms (Typical @ 20°C); Series_OCL: 20.81uH ± 25%; Series_I(Sat): 2.05uH (Minimum); Series_I(RMS): 2.62A DC; Series_DCR: 0.061 Ohms (Typical @ 20°C); Published: 17-Jul-2002; DatasheetDocument: Dec-2001; PackageDocument: Dec-2001; PackageReference: OPA3; Publisher: Altium Limited; ComponentLink1Description: Manufacturer Link; ComponentLink1URL: http://www.cooperet.com/; ComponentLink2Description: Datasheet; ComponentLink2URL: http://www.cooperet.com/pdfs_html/EconoPacOctaPacOctaPacPlus_Specs.pdf
footprint OPA3 (SM Inductor/Transformer; 4 Leads; Body 11.43 x 11.43 x 4.83 mm (LxWxH))
pins: 1 Pri+, 2 Pri-, 3 Sec-, 4 Sec+

## CTX5-3P
designator T?
Surface Mount 1:1 Transformer, 1.60A DC Series Full Load Current, Econo-Pac; Parallel_OCL: 4.74uH ± 20%; Parallel_L(Full_Load): 3.04uH (Minimum); Parallel_I(Full_Load): 3.20A DC; Parallel_DCR: 0.022 Ohms (Maximum); Series_OCL: 18.94uH ± 20%; Series_L(Full_Load): 12.15uH (Minimum); Series_I(Full_Load): 1.6A DC; Series_DCR: 0.09 Ohms (Maximum); Published: 17-Jul-2002; DatasheetDocument: Jan-2002; PackageDocument: Dec-2001; PackageReference: OPA3; Publisher: Altium Limited; ComponentLink1Description: Manufacturer Link; ComponentLink1URL: http://www.cooperet.com/; ComponentLink2Description: Datasheet; ComponentLink2URL: http://www.cooperet.com/pdfs_html/EconoPacOctaPacOctaPacPlus_Specs.pdf
footprint OPA3 (SM Inductor/Transformer; 4 Leads; Body 11.43 x 11.43 x 4.83 mm (LxWxH))
pins: 1 Pri+, 2 Pri-, 3 Sec-, 4 Sec+

## CTX5-4
designator T?
Surface Mount 1:1 Transformer, 2.20A DC Series Full Load Current, Octa-Pac; Parallel_OCL: 4.90uH ± 20%; Parallel_L(Full_Load): 2.59uH (Minimum); Parallel_I(Full_Load): 4.40A DC; Parallel_DCR: 0.014 Ohms (Maximum); Series_OCL: 19.60uH ± 20%; Series_L(Full_Load): 10.37uH (Minimum); Series_I(Full_Load): 2.2A DC; Series_DCR: 0.056 Ohms (Maximum); Published: 17-Jul-2002; DatasheetDocument: Jan-2002; PackageDocument: Dec-2001; PackageReference: OPA4; Publisher: Altium Limited; ComponentLink1Description: Manufacturer Link; ComponentLink1URL: http://www.cooperet.com/; ComponentLink2Description: Datasheet; ComponentLink2URL: http://www.cooperet.com/pdfs_html/EconoPacOctaPacOctaPacPlus_Specs.pdf
footprint OPA4 (SM Inductor/Transformer; 4 Leads; Body 11.43 x 11.43 x 6.35 mm (LxWxH))
pins: 1 Pri+, 2 Pri-, 3 Sec-, 4 Sec+

## CTX5-4A
designator T?
Surface Mount 1:1 Transformer, 3.61A RMS Series Current, Octa-Pac Plus; Parallel_OCL: 4.28uH ± 25%; Parallel_I(Sat): 6.43A (Peak); Parallel_I(RMS): 7.21A DC; Parallel_DCR: 0.0085 Ohms (Typical @ 20°C); Series_OCL: 17.05uH ± 25%; Series_I(Sat): 3.21uH (Minimum); Series_I(RMS): 3.61A DC; Series_DCR: 0.0339 Ohms (Typical @ 20°C); Published: 17-Jul-2002; DatasheetDocument: Dec-2001; PackageDocument: Dec-2001; PackageReference: OPA4; Publisher: Altium Limited; ComponentLink1Description: Manufacturer Link; ComponentLink1URL: http://www.cooperet.com/; ComponentLink2Description: Datasheet; ComponentLink2URL: http://www.cooperet.com/pdfs_html/EconoPacOctaPacOctaPacPlus_Specs.pdf
footprint OPA4 (SM Inductor/Transformer; 4 Leads; Body 11.43 x 11.43 x 6.35 mm (LxWxH))
pins: 1 Pri+, 2 Pri-, 3 Sec-, 4 Sec+